# Altium footprint library bma456.PcbLib: 1 footprints
Each footprint in its own frame and in the unit in brackets; x right, y up, seen from the top. Pads: shape width x height; smd on the part's side, far side on the other; paste and mask are expansions set on the pad; w line width, h text height; cw(c..) or ccw(c..) is an arc to the next point about the centre after c.
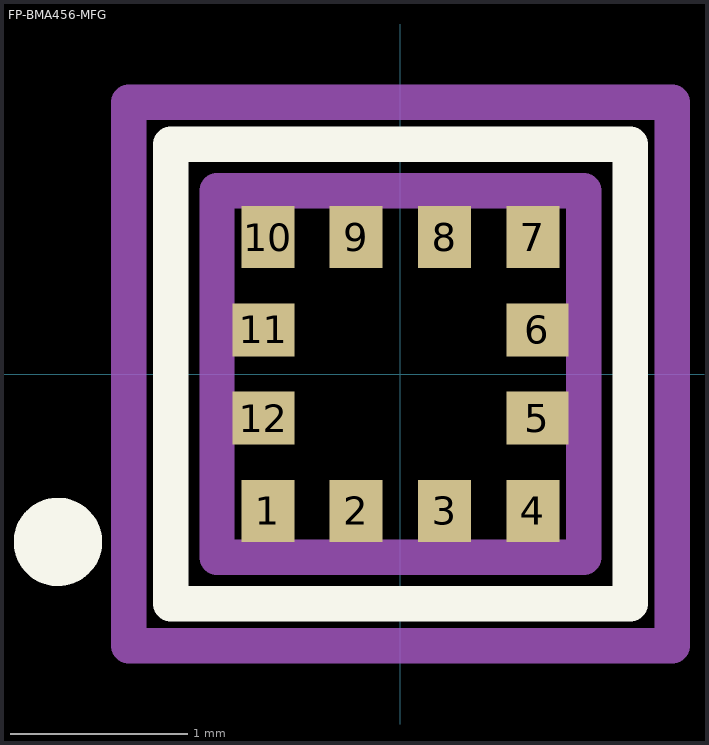
[diagram p0: the footprint, top view; thin cyan lines are the x and y axes]

## FP-BMA456-MFG [mm]
pads (12):
  rect 0.3x0.35 smd paste+0 mask+0: 1(-0.75,-0.775) 2(-0.25,-0.775) 3(0.25,-0.775) 4(0.75,-0.775) 7(0.75,0.775) 8(0.25,0.775) 9(-0.25,0.775) 10(-0.75,0.775)
  rect 0.35x0.3 smd paste+0 mask+0: 5(0.775,-0.25) 6(0.775,0.25) 11(-0.775,0.25) 12(-0.775,-0.25)
Top Overlay:
  circle w0.25: c-1.937,-0.95 r0.125
  lines w0.2: -1.3,-1.3 1.3,-1.3 1.3,1.3 -1.3,1.3 -1.3,-1.3
Top Component Outline:
  lines w0.2: -1.038,-1.038 1.038,-1.038 1.038,1.038 -1.038,1.038 -1.038,-1.038
Top Assembly:
  lines w0.2: -1.538,-1.538 -1.538,1.538 ; -1.538,-1.538 1.538,-1.538 ; -1.538,-1.538 -1.538,1.538 ; -1.538,-1.538 1.538,-1.538 ; -1.538,1.538 1.538,1.538 ; -1.538,1.538 1.538,1.538 ; 1.538,-1.538 1.538,1.538 ; 1.538,-1.538 1.538,1.538
  text ".Designator" at 0,0.188 h1
3D body "IC_Bosch_Sensortec_BMA456_eec.STEP": height 0.7, standoff 0, extent -1,-1 1,1